# Altium schematic symbol library EEG_SYMBOLS.SchLib: 41 symbols (part 1 of 2)
Pins are listed as number, name and electrical type; pins without a type are passive.

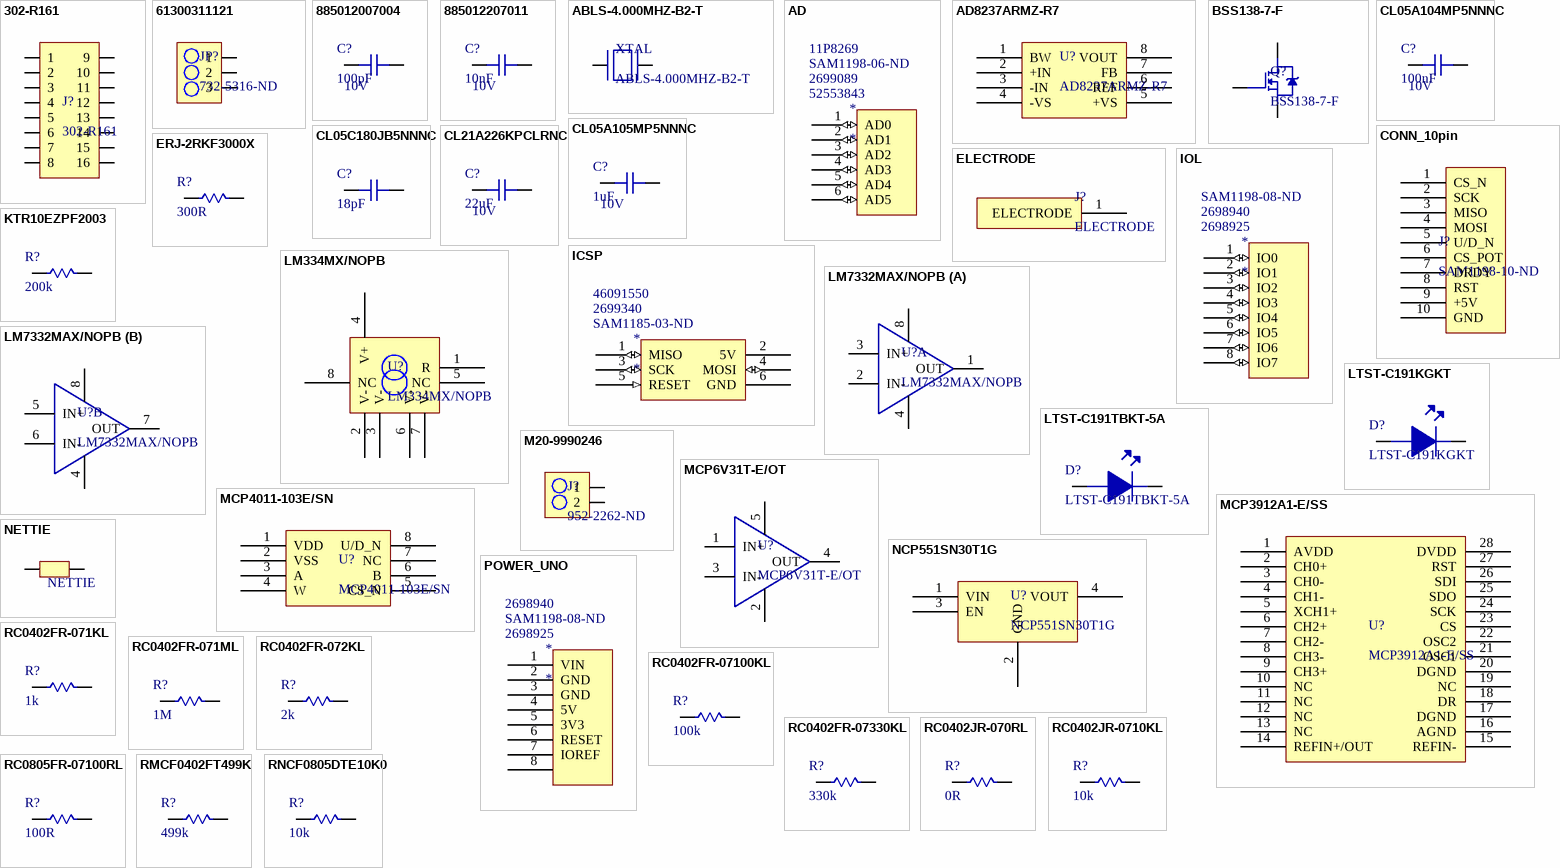
[diagram p0: symbols 302-R161 to RNCF0805DTE10K0]

## 302-R161
designator J?
16 Positions Header, Shrouded Connector 0.100" (2.54mm) Through Hole, Right Angle Gold; Manufacturer: On-Shore Technology; Number of Positions: 16; Connector Type: Male Pin; Pitch: 0.1inch; Supplier 1: Digi-Key; Manufacturer Part Number: 302-R161; Stock 1: 7509; Pricing 1: 1=0.44, 10=0.417, 180=0.3197, 540=0.278, 1080=0.2294, 5040=0.2016, 10080=0.1877 (USD); Mount: Through Hole; Colour: Black; Contact Plating: Gold; Number of Rows: 2; Packaging: Tray; Termination: Solder; Row Spacing: 0.1inch; ComponentLink1URL: http://www.on-shore.com/wp-content/uploads/2015/09/302-rxxx.pdf; ComponentLink1Description: http://www.on-shore.com/wp-content/uploads/2015/09/302-rxxx.pdf; Supplier Part Number 1: ED10535-ND
footprint CONN16POS
pins: 1, 2, 3, 4, 5, 6, 7, 8, 9, 10, 11, 12, 13, 14, 15, 16

## 61300311121
designator JP?, comment 732-5316-ND
CONN_HeaderPins3pos WURTH ELEKTRONIK Board-To-Board Connector, Vertical, WR-PHD Series, Through Hole, Header, 3 Contacts, 2.54 mm; Manufacturer: Wurth Electronics; Manufacturer Part Number: 61300311121; Number of Positions: 3; Gender: Male; Connector Type: Male Pin; Pitch: 0.1inch; Supplier 1: Digi-Key; Stock 1: 57026; Pricing 1: 1=0.13, 10=0.106, 25=0.088, 50=0.074, 100=0.067, 1000=0.061 (USD); Mount: Through Hole; Case/Package: 100; Contact Plating: Gold; Contact Material: Copper; Colour: Black; Number of Rows: 1; Packaging: Bulk; Termination: Solder; Number of Contacts: 3; Contact Mating Length: 0.236inch; REACH SVHC: Unknown; Lead Free: Lead Free; ComponentLink1URL: http://www.farnell.com/cad/1737268.pdf; ComponentLink1Description: http://www.farnell.com/cad/1737268.pdf; Supplier Part Number 1: 732-5316-ND
footprint 3PIN_HEADER
pins: 1, 2, 3

## 885012007004
designator C?, comment 100pF  Voltage Rating: 10V
CAP CER 100pF 10V C0G, NP0 0805 (2012 Metric) 0.079" L x 0.049" W (2.00mm x 1.25mm); Manufacturer: Wurth Electronics; Manufacturer Part Number: 885012007004; Tolerance: 5%; Supplier 1: Digi-Key; Stock 1: 4355; Pricing 1: 1=0.1, 10=0.046, 100=0.0415, 500=0.0367 (USD); Mount: Surface Mount; Case/Package: 0805; Case Code (Metric): 2012; Case Code (Imperial): 0805; Min Operating Temperature: -55°C; Max Operating Temperature: 125°C; Packaging: Tape and Reel; Capacitance: 100pF; Length: 0.079inch; Width: 0.049inch; Thickness: 0.028inch; Supplier Part Number 1: 732-7809-1-ND
footprint C0805 (Chip Capacitor, 2-Leads, Body 2.00x1.25mm, IPC Medium Density)
pins: 1, 2

## 885012207011
designator C?, comment 10nF  Voltage Rating: 10V
CAP CER 10nF 10V X7R 0805 (2012 Metric) 0.079" L x 0.049" W (2.00mm x 1.25mm); Manufacturer: Wurth Electronics; Manufacturer Part Number: 885012207011; Tolerance: 10%; Supplier 1: Digi-Key; Stock 1: 3315; Pricing 1: 1=0.1, 10=0.035, 100=0.0312, 500=0.0276 (USD); Mount: Surface Mount; Case/Package: 0805; Case Code (Metric): 2012; Case Code (Imperial): 0805; Min Operating Temperature: -55°C; Max Operating Temperature: 125°C; Packaging: Tape and Reel; Capacitance: 10nF; Length: 0.079inch; Width: 0.049inch; Thickness: 0.035inch; Supplier Part Number 1: 732-8021-1-ND
footprint C0805 (Chip Capacitor, 2-Leads, Body 2.00x1.25mm, IPC Medium Density)
pins: 1, 2

## ABLS-4.000MHZ-B2-T
designator XTAL
4MHz ±20ppm Crystal 18pF 180 Ohm -20°C ~ 70°C  Surface Mount HC49/US; Manufacturer: Abracon; ESR (Equivalent Series Resistance): 180R; Frequency Stability: 50ppm; Supplier 1: Digi-Key; Manufacturer Part Number: ABLS-4.000MHZ-B2-T; Stock 1: 74308; Pricing 1: 1=0.28, 10=0.234, 50=0.2104, 100=0.187, 500=0.1777 (USD); Mount: Surface Mount; Case/Package: SMD/SMT; Number of Pins: 2; Min Operating Temperature: -20°C; Max Operating Temperature: 70°C; Package Quantity: 1000; Frequency: 4MHz; Frequency Tolerance: 20ppm; Load Capacitance: 18pF; Packaging: Tape and Reel; Tolerance: 20ppm; Termination: SMD/SMT; Series Resistance: 180R; Length: 11.4mm; Height: 0.165inch; Width: 0.185inch; Depth: 4.7mm; Radiation Hardening: No; REACH SVHC: Yes; Lead Free: Lead Free; ComponentLink1URL: https://abracon.com/Support/PackageDrawing/Resonators/ABLS-2D.pdf; ComponentLink1Description: https://abracon.com/Support/PackageDrawing/Resonators/ABLS-2D.pdf; ComponentLink2URL: http://www.abracon.com/Resonators/abls.pdf; ComponentLink2Description: http://www.abracon.com/Resonators/abls.pdf; ComponentLink3URL: https://www.verical.com/server-webapp/html/getDatasheet?partID=722412; ComponentLink3Description: https://www.verical.com/server-webapp/html/getDatasheet?partID=722412; ComponentLink4URL: http://www.mouser.com/ds/2/3/abls-44621.pdf; ComponentLink4Description: http://www.mouser.com/ds/2/3/abls-44621.pdf; Supplier Part Number 1: 535-9085-1-ND
footprint XTAL
pins: 1, 2

## AD
designator *  Supplier Part Number 1: 52553843  Supplier Part Number 2: 2699089  Supplier Part Number 3: SAM1198-06-ND  Supplier Part Number 4: 11P8269
Supplier 1: Arrow; Supplier 2: Arrow; Supplier 3: Digi-Key; Supplier 4: Newark
footprint Header 6x1 8.5mm (Stackable 6 pin header)
pins: 1 AD0 (io), 2 AD1 (io), 3 AD2 (io), 4 AD3 (io), 5 AD4 (io), 6 AD5 (io)

## AD8237ARMZ-R7
designator U?
IC OPAMP INSTR 200KHZ RRO 8MSOP; Manufacturer: Analog Devices; Number of Channels: 1; Common Mode Rejection Ratio: 106dB; Max Supply Voltage: 5.5V; Min Supply Voltage: 1.8V; Slew Rate: 0.15V/µs; Nominal Supply Current: 115uA; Bandwidth: 20kHz; Input Bias Current: 250pA; Input Offset Voltage (Vos): 75uV; Output Current per Channel: 4mA; Voltage Gain: 60dB; Supplier 1: Digi-Key; Manufacturer Part Number: AD8237ARMZ-R7; Stock 1: 16545; Pricing 1: 1=2.76, 10=2.476, 100=2.0286, 500=1.7269 (USD); Mount: Surface Mount; Case/Package: MSOP; Number of Pins: 8; Contact Plating: Matte,Tin; Min Operating Temperature: -40°C; Max Operating Temperature: 125°C; Packaging: Tape and Reel; Package Quantity: 1; -3db Bandwidth: 200kHz; Number of Circuits: 1; Operating Supply Current: 115uA; Number of Elements: 1; Lead Free: Contains Lead; ComponentLink1URL: http://www.analog.com/media/en/technical-documentation/data-sheets/AD8237.pdf; ComponentLink1Description: http://www.analog.com/media/en/technical-documentation/data-sheets/AD8237.pdf; ComponentLink2URL: http://www.analog.com/static/imported-files/data_sheets/AD8237.pdf; ComponentLink2Description: http://www.analog.com/static/imported-files/data_sheets/AD8237.pdf; Supplier Part Number 1: AD8237ARMZ-R7CT-ND
footprint MSOP-8 (TSOP, 8-Leads, Body 3.00x3.00mm, Pitch 0.65mm, IPC Medium Density)
pins: 1 BW, 2 +IN, 3 -IN, 4 -VS, 5 +VS, 6 REF, 7 FB, 8 VOUT

## BSS138-7-F
designator Q?
MOSFET N-CH 50V 200MA SOT23-3; Manufacturer: Diodes; Nominal Vgs: 1.2V; Rds On Max: 3.5R; Input Capacitance: 50pF; Number of Elements: 1; Max Power Dissipation: 300mW; Turn-Off Delay Time: 20ns; Element Configuration: Single; Gate to Source Voltage (Vgs): 20V; Fall Time: 25ns; Rise Time: 10ns; Current: 2A; Supplier 1: Digi-Key; Manufacturer Part Number: BSS138-7-F; Stock 1: 6200; Pricing 1: 1=0.23, 10=0.212, 100=0.119, 500=0.0637, 1000=0.0433 (USD); Mount: Surface Mount; Case/Package: SOT-23; Number of Pins: 3; Weight: 0.000282oz; Contact Plating: Matte,Tin; Min Operating Temperature: -55°C; Max Operating Temperature: 150°C; Packaging: Tape and Reel; Package Quantity: 3000; Drain to Source Voltage (Vdss): 50V; Continuous Drain Current (ID): 200mA; Drain to Source Breakdown Voltage: 50V; Drain to Source Resistance: 3.5R; Power Dissipation: 300mW; Turn-On Delay Time: 20ns; Threshold Voltage: 1.2V; Number of Channels: 1; Voltage Rating (DC): 50V; Current Rating: 200mA; Voltage: 50V; On-State Resistance: 3.5R; Length: 2.9mm; Height: 1mm; Width: 1.3mm; REACH SVHC: No SVHC; Lead Free: Lead Free; ComponentLink1URL: http://www.diodes.com/datasheets/BSS138.pdf; ComponentLink1Description: http://www.diodes.com/datasheets/BSS138.pdf; ComponentLink2URL: http://www.farnell.com/datasheets/1915619.pdf; ComponentLink2Description: http://www.farnell.com/datasheets/1915619.pdf; ComponentLink3URL: https://www.diodes.com/assets/Datasheets/ds30144.pdf; ComponentLink3Description: https://www.diodes.com/assets/Datasheets/ds30144.pdf; ComponentLink4URL: http://www.diodes.com/_files/datasheets/ds30144.pdf; ComponentLink4Description: http://www.diodes.com/_files/datasheets/ds30144.pdf; Supplier Part Number 1: BSS138-FDICT-ND
footprint SOT23-3 (SOT23, 3-Leads, Body 2.90x2.35mm, Pitch 0.90mm, IPC Medium Density)
pins: 1, 2, 3

## CL05A104MP5NNNC
designator C?, comment 100nF  Voltage Rating: 10V
CAP CER 0.1uF 10V X5R 20% SMD 0402 85C Paper T/R; Manufacturer: Samsung; Manufacturer Part Number: CL05A104MP5NNNC; Description: Cap Ceramic 0.1uF 10V X5R 20% SMD 0402 85C Paper T/R; Supplier 1: Digi-Key; Stock 1: 100000; Pricing 1: 1=0.1, 10=0.024, 100=0.0106, 500=0.0076, 1000=0.006, 2500=0.0054, 5000=0.005 (USD); Mount: Surface Mount; Case/Package: 0402; Case Code (Metric): 1005; Case Code (Imperial): 0402; Min Operating Temperature: -55°C; Max Operating Temperature: 85°C; Packaging: Tape and Reel; Capacitance: 100nF; Tolerance: 20%; Dielectric: X5R; Voltage Rating (DC): 10V; Length: 1mm; Height: 0.5mm; Width: 0.02inch; Thickness: 0.022inch; Depth: 0.5mm; Radiation Hardening: No; Lead Free: Lead Free; ComponentLink1URL: https://media.digikey.com/pdf/Data%20Sheets/Samsung%20PDFs/CL_Series_MLCC_ds.pdf; ComponentLink1Description: https://media.digikey.com/pdf/Data%20Sheets/Samsung%20PDFs/CL_Series_MLCC_ds.pdf; Supplier Part Number 1: 1276-1443-1-ND
footprint C0402 (Chip Capacitor, 2-Leads, Body 1.00x0.50mm, IPC Medium Density)
pins: 1, 2

## CL05A105MP5NNNC
designator C?, comment 1uF  Voltage Rating: 10V
CAP CER 1uF 10V X5R 20% SMD 0402 85C Paper T/R; Manufacturer: Samsung; Manufacturer Part Number: CL05A105MP5NNNC; Description: Cap Ceramic 1uF 10V X5R 20% SMD 0402 85C Paper T/R; Supplier 1: Digi-Key; Stock 1: 51298; Pricing 1: 1=0.1, 10=0.031, 100=0.014, 500=0.01, 1000=0.0079, 2500=0.0072, 5000=0.0066 (USD); Mount: Surface Mount; Case/Package: 0402; Case Code (Metric): 1005; Case Code (Imperial): 0402; Min Operating Temperature: -55°C; Max Operating Temperature: 85°C; Package Quantity: 1; Packaging: Tape and Reel; Capacitance: 1uF; Tolerance: 20%; Dielectric: X5R; Voltage Rating (DC): 10V; Length: 1mm; Height: 0.5mm; Width: 0.02inch; Thickness: 0.022inch; Depth: 0.5mm; Radiation Hardening: No; Lead Free: Lead Free; ComponentLink1URL: https://media.digikey.com/pdf/Data%20Sheets/Samsung%20PDFs/CL_Series_MLCC_ds.pdf; ComponentLink1Description: https://media.digikey.com/pdf/Data%20Sheets/Samsung%20PDFs/CL_Series_MLCC_ds.pdf; Supplier Part Number 1: 1276-1448-1-ND
footprint C0402 (Chip Capacitor, 2-Leads, Body 1.00x0.50mm, IPC Medium Density)
pins: 1, 2

## CL05C180JB5NNNC
designator C?, comment 18pF
CAP CER 18pF 50V C0G 5% SMD 0402 125C Paper T/R; Manufacturer: Samsung; Manufacturer Part Number: CL05C180JB5NNNC; Description: Cap Ceramic 18pF 50V C0G 5% SMD 0402 125C Paper T/R; Material: Ceramic; Temperature Coefficient: 300ppm/°C; Supplier 1: Digi-Key; Stock 1: 42154; Pricing 1: 1=0.1, 10=0.033, 100=0.0148, 500=0.0105, 1000=0.0083, 2500=0.0075, 5000=0.0069 (USD); Mount: Surface Mount; Case/Package: 0402; Case Code (Metric): 1005; Case Code (Imperial): 0402; Contact Plating: Tin; Min Operating Temperature: -55°C; Max Operating Temperature: 125°C; Package Quantity: 1; Packaging: Tape and Reel; Capacitance: 18pF; Tolerance: 5%; Voltage Rating: 50V; Dielectric: C0G; Voltage: 50V; Length: 1mm; Height: 0.5mm; Width: 0.02inch; Thickness: 0.022inch; Depth: 0.5mm; Radiation Hardening: No; ComponentLink1URL: https://www.verical.com/server-webapp/html/getDatasheet?partID=482699; ComponentLink1Description: https://www.verical.com/server-webapp/html/getDatasheet?partID=482699; ComponentLink2URL: https://www.distrelec.biz/Web/Downloads/_e/ng/MLCC_CatalogDownload2013_ENG.pdf?mime=application%2Fpdf; ComponentLink2Description: https://www.distrelec.biz/Web/Downloads/_e/ng/MLCC_CatalogDownload2013_ENG.pdf?mime=application%2Fpdf; ComponentLink3URL: https://produktinfo.conrad.com/datenblaetter/450000-474999/458675-da-01-en-VS_KONDENSATOR_0402.pdf; ComponentLink3Description: https://produktinfo.conrad.com/datenblaetter/450000-474999/458675-da-01-en-VS_KONDENSATOR_0402.pdf; Supplier Part Number 1: 1276-1140-1-ND
footprint C0402 (Chip Capacitor, 2-Leads, Body 1.00x0.50mm, IPC Medium Density)
pins: 1, 2

## CL21A226KPCLRNC
designator C?, comment 22uF  Voltage Rating: 10V
CAP CER 22uF 10V X5R 10% SMD 0805 85C Cardboard T/R; Manufacturer: Samsung; Manufacturer Part Number: CL21A226KPCLRNC; Description: Cap Ceramic 22uF 10V X5R 10% SMD 0805 85C Cardboard T/R; Supplier 1: Digi-Key; Stock 1: 40000; Pricing 1: 1=0.38, 10=0.26, 100=0.1471, 500=0.1039, 1000=0.0909 (USD); Mount: Surface Mount; Case/Package: 0805; Case Code (Metric): 2012; Case Code (Imperial): 0805; Min Operating Temperature: -55°C; Max Operating Temperature: 85°C; Packaging: Tape and Reel; Tolerance: 10%; Capacitance: 22uF; Dielectric: X5R; Length: 2mm; Width: 0.049inch; Thickness: 0.037inch; Depth: 1.25mm; Radiation Hardening: No; Lead Free: Lead Free; ComponentLink1URL: https://www.verical.com/server-webapp/html/getDatasheet?partID=781772; ComponentLink1Description: https://www.verical.com/server-webapp/html/getDatasheet?partID=781772; Supplier Part Number 1: 1276-6786-1-ND
footprint C0805 (Chip Capacitor, 2-Leads, Body 2.00x1.25mm, IPC Medium Density)
pins: 1, 2

## CONN_10pin
designator J?, comment SAM1198-10-ND
10 pin header connector; Supplier 1: Arrow; Supplier 2: Arrow; Supplier 3: Digi-Key; Supplier Part Number 1: 2698789; Supplier Part Number 2: 2698803S4475693N1004; Supplier Part Number 3: SAM1198-10-ND
footprint Header 10x1 8.5mm (Stackable 10 pin header)
pins: 1 CS_N, 2 SCK, 3 MISO, 4 MOSI, 5 U/D_N, 6 CS_POT, 7 DRDY, 8 RST, 9 +5V, 10 GND

## ELECTRODE
designator J?
Silver Electrode Pins
footprint ELECTRODE
pins: 1 ELECTRODE

## ERJ-2RKF3000X
designator R?, comment 300R
RES SMD 300R 0402 300 Ohm 1% 1/10W ±100ppm/C Molded SMD Punched Carrier T/R; Manufacturer: Panasonic; Manufacturer Part Number: ERJ-2RKF3000X; Description: Res Thick Film 0402 300 Ohm 1% 1/10W ±100ppm/C Molded SMD Punched Carrier T/R; Power Rating: 100mW; Voltage Rating: 50V; Temperature Coefficient: 100ppm/°C; Supplier 1: Digi-Key; Stock 1: 2431619; Pricing 1: 1=0.1, 10=0.054, 100=0.0221, 1000=0.0099, 2500=0.0086, 5000=0.0071 (USD); Mount: Surface Mount; Case/Package: 0402; Case Code (Metric): 1005; Case Code (Imperial): 0402; Contact Plating: Tin; Min Operating Temperature: -55°C; Max Operating Temperature: 155°C; Resistance: 300R; Tolerance: 1%; Packaging: Tape and Reel; Package Quantity: 10000; Composition: Thick Film; Number of Terminations: 2; Termination: SMD/SMT; Military Standard: Not; Max Power Dissipation: 100mW; Voltage Rating (DC): 50V; Length: 1mm; Height: 0.35mm; Width: 0.02inch; Depth: 0.5mm; REACH SVHC: No SVHC; Lead Free: Lead Free; ComponentLink1URL: https://www.alliedelec.com/m/d/623f45ff1957d936ff56d46fd1c28cac.pdf; ComponentLink1Description: https://www.alliedelec.com/m/d/623f45ff1957d936ff56d46fd1c28cac.pdf; ComponentLink2URL: http://industrial.panasonic.com/www-data/pdf/AOA0000/AOA0000CE2.pdf; ComponentLink2Description: http://industrial.panasonic.com/www-data/pdf/AOA0000/AOA0000CE2.pdf; ComponentLink3URL: http://www.farnell.com/datasheets/1911175.pdf; ComponentLink3Description: http://www.farnell.com/datasheets/1911175.pdf; ComponentLink4URL: http://components.arrow.com/part/dataview/41791037S8289418N1386; ComponentLink4Description: http://components.arrow.com/part/dataview/41791037S8289418N1386; ComponentLink5URL: http://www.mouser.com/ds/2/315/AOA0000CE2-37512.pdf; ComponentLink5Description: http://www.mouser.com/ds/2/315/AOA0000CE2-37512.pdf; ComponentLink6URL: http://www.farnell.com/datasheets/1694929.pdf; ComponentLink6Description: http://www.farnell.com/datasheets/1694929.pdf; Supplier Part Number 1: P300LCT-ND
footprint R0402 (Chip Resistor, 2-Leads, Body 1.00x0.50mm, IPC Medium Density)
pins: 1, 2

## ICSP
designator *  Supplier Part Number 1: SAM1185-03-ND  Supplier Part Number 2: 2699340  Supplier Part Number 3: 46091550
Supplier 1: Digi-Key; Supplier 2: Arrow; Supplier 3: Arrow
footprint ICSP
pins: 1 MISO (io), 2 5V (power), 3 SCK (io), 4 MOSI (io), 5 RESET (in), 6 GND (power)

## IOL
designator *  Supplier Part Number 1: 2698925  Supplier Part Number 2: 2698940  Supplier Part Number 3: SAM1198-08-ND
Supplier 1: Arrow; Supplier 2: Arrow; Supplier 3: Digi-Key
footprint Header 8x1 8.5mm (Stackable 8 pin header)
footprint Header 8x1 8.5mm (Stackable 8 pin header)
pins: 1 IO0 (io), 2 IO1 (io), 3 IO2 (io), 4 IO3 (io), 5 IO4 (io), 6 IO5 (io), 7 IO6 (io), 8 IO7 (io)

## KTR10EZPF2003
designator R?, comment 200k
RES SMD 200K 0805 1/8W 1% 0805 SMD; Manufacturer: Rohm; Manufacturer Part Number: KTR10EZPF2003; Resistance: 200000R; Supplier 1: Digi-Key; Stock 1: 61032; Pricing 1: 1=0.19, 10=0.16, 100=0.0624, 1000=0.0261, 2500=0.024 (USD); Case/Package: 0805; Supplier Part Number 1: RHM200KAHCT-ND
footprint R0805 (Chip Resistor, 2-Leads, Body 2.00x1.25mm, IPC Medium Density)
pins: 1, 2

## LM334MX/NOPB
designator U?
IC CURRENT SOURCE 3% 8SOIC; Manufacturer: TI National Semiconductor; Forward Voltage: 1V; Max Input Voltage: 40V; Output Voltage: 20V; Min Supply Voltage: 800mV; Max Supply Current: 10mA; Accuracy: 6%; Forward Current: 5mA; Max Power Dissipation: 400mW; Number of Outputs: 1; Quiescent Current: 1uA; Reference Type: Adjustable; Output Type: Analog; Supplier 1: Digi-Key; Manufacturer Part Number: LM334MX/NOPB; Stock 1: 58254; Pricing 1: 1=0.9, 10=0.802, 100=0.6254, 500=0.5166, 1000=0.4079 (USD); Mount: Surface Mount; Case/Package: SOIC; Number of Pins: 8; Min Operating Temperature: -40°C; Max Operating Temperature: 85°C; Packaging: Tape and Reel; Min Input Voltage: 1V; Max Supply Voltage: 40V; Package Quantity: 2500; Output Current: 10mA; Radiation Hardening: No; REACH SVHC: No SVHC; Lead Free: Lead Free; ComponentLink1URL: https://www.verical.com/server-webapp/html/getDatasheet?partID=629166; ComponentLink1Description: https://www.verical.com/server-webapp/html/getDatasheet?partID=629166; ComponentLink2URL: http://www.ti.com/lit/ds/symlink/lm234.pdf; ComponentLink2Description: http://www.ti.com/lit/ds/symlink/lm234.pdf; ComponentLink3URL: http://www.ti.com/general/docs/lit/getliterature.tsp?genericPartNumber=LM334&&fileType=pdf; ComponentLink3Description: http://www.ti.com/general/docs/lit/getliterature.tsp?genericPartNumber=LM334&&fileType=pdf; ComponentLink4URL: http://www.farnell.com/datasheets/1883087.pdf; ComponentLink4Description: http://www.farnell.com/datasheets/1883087.pdf; Supplier Part Number 1: LM334MX/NOPBCT-ND
footprint 8-SOIC (SOIC, 8-Leads, Body 4.90x3.90mm, Pitch 1.27mm, IPC Medium Density)
pins: 1 R, 2 V-, 3 V-, 4 V+, 5 NC, 6 V-, 7 V-, 8 NC

## LM7332MAX/NOPB
designator U?
IC OP AMP R-R I/O DUAL 30V 8SOIC; Manufacturer: TI National Semiconductor; Slew Rate: 15.2V/µs; Unity Gain Bandwidth Product: 19.3MHz; Common Mode Rejection Ratio: 62dB; Max Supply Voltage: 32V; Min Supply Voltage: 2.5V; Min Dual Supply Voltage: 1.25V; Max Dual Supply Voltage: 16V; Number of Channels: 2; Output Current: 70mA; Nominal Supply Current: 2mA; Voltage Gain: 77dB; Input Offset Voltage (Vos): 2mV; Input Bias Current: 1uA; Gain Bandwidth Product: 21MHz; Power Supply Rejection Ratio (PSRR): 78dB; Supplier 1: Digi-Key; Manufacturer Part Number: LM7332MAX/NOPB; Stock 1: 7321; Pricing 1: 1=2.67, 10=2.402, 100=1.9306, 500=1.5862, 1000=1.3143 (USD); Mount: Surface Mount; Case/Package: SOIC; Number of Pins: 8; Contact Plating: Tin; Min Operating Temperature: -40°C; Max Operating Temperature: 125°C; Packaging: Tape and Reel; Package Quantity: 2500; Number of Circuits: 2; Operating Supply Current: 2mA; Output Current per Channel: 70mA; Number of Elements: 2; Operating Supply Voltage: 16V; Radiation Hardening: No; Lead Free: Lead Free; ComponentLink1URL: http://www.ti.com/lit/ds/symlink/lm7332.pdf; ComponentLink1Description: http://www.ti.com/lit/ds/symlink/lm7332.pdf; Supplier Part Number 1: 296-35310-1-ND
footprint 8-SOIC (SOIC, 8-Leads, Body 4.90x3.90mm, Pitch 1.27mm, IPC Medium Density)
part A pins: 1 OUT, 2 IN-, 3 IN+, 4 V-, 8 V+
part B pins: 4 V-, 5 IN+, 6 IN-, 7 OUT, 8 V+

## LTST-C191KGKT
designator D?
LED GREEN CLEAR 0603 SMD; Manufacturer: Vishay Lite-On; Lens Colour: Clear,Colorless; Power Rating: 75mW; Luminous Intensity: 35mcd; Viewing Angle: 130°; Lens Style: Clear,Diffused,Colorless,Rectangular; Forward Current: 30mA; Forward Voltage: 2V; Dominant Wavelength: 571nm; Test Current: 20mA; Number of Elements: 1; Wavelength: 574nm; Supplier 1: Digi-Key; Manufacturer Part Number: LTST-C191KGKT; Stock 1: 1301664; Pricing 1: 1=0.29, 10=0.211, 25=0.1556, 100=0.1111, 250=0.0756, 500=0.0667, 1000=0.0522, 2500=0.0511 (USD); Mount: Surface Mount; Case/Package: 0603; Number of Pins: 2; Colour: Green; Case Code (Metric): 1608; Case Code (Imperial): 0603; Min Operating Temperature: -55°C; Max Operating Temperature: 85°C; Packaging: Tape and Reel; Package Quantity: 1; Illumination Colour: Green; Lens Transparency: Clear; Power Dissipation: 75mW; Number of LEDs: 1; Length: 1.6mm; Height: 0.55mm; Width: 0.8mm; Depth: 0.8mm; Radiation Hardening: No; Lead Free: Lead Free; ComponentLink1URL: https://datasheet.ciiva.com/12400/100-ltst-c191kgkt-53586-12400818.pdf; ComponentLink1Description: https://datasheet.ciiva.com/12400/100-ltst-c191kgkt-53586-12400818.pdf; ComponentLink2URL: https://datasheet.ciiva.com/2109/s-110-ltst-c191kgkt-2109973.pdf; ComponentLink2Description: https://datasheet.ciiva.com/2109/s-110-ltst-c191kgkt-2109973.pdf; ComponentLink3URL: https://datasheet.ciiva.com/2109/s-110-ltst-c191kgkt-2109974.pdf; ComponentLink3Description: https://datasheet.ciiva.com/2109/s-110-ltst-c191kgkt-2109974.pdf; ComponentLink4URL: https://datasheet.ciiva.com/2109/s-110-ltst-c191kgkt-2109975.pdf; ComponentLink4Description: https://datasheet.ciiva.com/2109/s-110-ltst-c191kgkt-2109975.pdf; ComponentLink5URL: https://datasheet.ciiva.com/15223/getdatasheetpartid-103913-15223276.pdf; ComponentLink5Description: https://datasheet.ciiva.com/15223/getdatasheetpartid-103913-15223276.pdf; ComponentLink6URL: https://datasheet.ciiva.com/11773/0900766b80dc02b1-11773629.pdf; ComponentLink6Description: https://datasheet.ciiva.com/11773/0900766b80dc02b1-11773629.pdf; ComponentLink7URL: https://datasheet.ciiva.com/16215/ltst-c191kgkt-16215151.pdf; ComponentLink7Description: https://datasheet.ciiva.com/16215/ltst-c191kgkt-16215151.pdf; Supplier Part Number 1: 160-1446-6-ND
footprint LED_0603
pins: 1, 2

## LTST-C191TBKT-5A
designator D?
LED BLUE CLEAR 0603 SMD; Manufacturer: Vishay Lite-On; Lens Colour: Colorless; Lens Style: Diffused,Colorless,Rectangular; Viewing Angle: 130°; Forward Current: 20mA; Forward Voltage: 2.8V; Luminous Intensity: 15mcd; Test Current: 5mA; Dominant Wavelength: 473nm; Number of LEDs: 1; Voltage: 29V; Supplier 1: Digi-Key; Manufacturer Part Number: LTST-C191TBKT-5A; Stock 1: 2918; Pricing 1: 1=0.52, 10=0.376, 25=0.2884, 100=0.1881, 250=0.138, 500=0.117, 1000=0.0961, 2500=0.0836 (USD); Mount: Surface Mount; Case/Package: 0603; Colour: Blue; Case Code (Metric): 1608; Case Code (Imperial): 0603; Min Operating Temperature: -20°C; Max Operating Temperature: 80°C; Packaging: Tape and Reel; Package Quantity: 5000; Illumination Colour: Blue; Lens Transparency: Clear; Length: 1.6mm; Height: 0.55mm; Width: 0.8mm; Radiation Hardening: No; ComponentLink1URL: http://components.arrow.com/part/dataview/52218576S9813001N1331; ComponentLink1Description: http://components.arrow.com/part/dataview/52218576S9813001N1331; ComponentLink2URL: http://optoelectronics.liteon.com/zh-cn/api/DwonloadFileHandler.ashx?txtSpecNo=DS22-2003-020&txtPartNo=LTST-C191TBKT-5A; ComponentLink2Description: http://optoelectronics.liteon.com/zh-cn/api/DwonloadFileHandler.ashx?txtSpecNo=DS22-2003-020&txtPartNo=LTST-C191TBKT-5A; Supplier Part Number 1: 160-2212-6-ND
footprint LED_0603
pins: 1, 2

## M20-9990246
designator J?, comment 952-2262-ND
CONN_HeaderPins2pos Headers & Wire Housings 02 SIL VERTICAL PIN HEADER TIN; Manufacturer: Harwin; Manufacturer Part Number: M20-9990246; Contact Resistance: 30mR; Max Current Rating: 3A; Number of Positions: 2; Gender: Male; Connector Type: Male Pin; Insulation Resistance: 10GR; Voltage Rating (AC): 750V; Pitch: 2.54mm; Supplier 1: Digi-Key; Stock 1: 53577; Pricing 1: 1=0.11, 10=0.099, 100=0.0609, 500=0.0504, 1000=0.0441, 5000=0.0378, 10000=0.0368 (USD); Case/Package: SIL; Colour: Black; Housing Colour: Black; Housing Material: Nylon; Contact Plating: Tin; Contact Material: Bronze,Brass; Min Operating Temperature: -40°C; Max Operating Temperature: 105°C; Package Quantity: 1000; Packaging: Bulk; Termination: Solder; Number of Rows: 1; Number of Contacts: 2; Orientation: Straight; Current Rating: 3A; Length: 5.08mm; Depth: 2.54mm; Contact Mating Length: 0.24inch; Radiation Hardening: No; REACH SVHC: No SVHC; ComponentLink1URL: https://datasheet.ciiva.com/8046/315376-8046930.pdf; ComponentLink1Description: https://datasheet.ciiva.com/8046/315376-8046930.pdf; ComponentLink2URL: https://datasheet.ciiva.com/6833/m20-999-6833368.pdf; ComponentLink2Description: https://datasheet.ciiva.com/6833/m20-999-6833368.pdf; ComponentLink3URL: https://datasheet.ciiva.com/11745/0900766b81034e61-11745755.pdf; ComponentLink3Description: https://datasheet.ciiva.com/11745/0900766b81034e61-11745755.pdf; ComponentLink4URL: https://datasheet.ciiva.com/22660/1830818-22660571.pdf; ComponentLink4Description: https://datasheet.ciiva.com/22660/1830818-22660571.pdf; ComponentLink5URL: https://datasheet.ciiva.com/26852/getdatasheetpartid-384170-26852203.pdf; ComponentLink5Description: https://datasheet.ciiva.com/26852/getdatasheetpartid-384170-26852203.pdf; Supplier Part Number 1: 952-2262-ND
footprint 2PIN_HEADER
pins: 1, 2

## MCP6V31T-E/OT
designator U?
IC OPAMP ZRO-DRFT 300KHZ SOT23-5; Manufacturer: Microchip; Slew Rate: 0.13V/µs; Voltage Gain: 135dB; Number of Channels: 1; Max Supply Voltage: 5.5V; Common Mode Rejection Ratio: 120dB; Min Supply Voltage: 1.8V; Output Current: 21mA; Nominal Supply Current: 23uA; Input Offset Voltage (Vos): 8uV; Input Bias Current: 5pA; Supplier 1: Digi-Key; Manufacturer Part Number: MCP6V31T-E/OT; Stock 1: 12497; Pricing 1: 1=1.11, 25=0.9272, 100=0.8446 (USD); Case/Package: SOT-23; Number of Pins: 5; Min Operating Temperature: -40°C; Max Operating Temperature: 125°C; Bandwidth: 300kHz; Packaging: Tape and Reel; Unity Gain Bandwidth Product: 300kHz; Package Quantity: 3000; Gain Bandwidth Product: 300kHz; Operating Supply Current: 23uA; Number of Circuits: 1; Output Current per Channel: 21mA; Number of Amplifiers: 1; Number of Elements: 1; Power Supply Rejection Ratio (PSRR): 120dB; Length: 3.1mm; Height: 1.3mm; Width: 1.8mm; Radiation Hardening: No; REACH SVHC: No SVHC; Lead Free: Lead Free; ComponentLink1URL: http://ww1.microchip.com/downloads/en/DeviceDoc/25127A.pdf; ComponentLink1Description: http://ww1.microchip.com/downloads/en/DeviceDoc/25127A.pdf; ComponentLink2URL: https://www.distrelec.biz/Web/Downloads/_t/ds/MCP6V31_1U_eng_tds.pdf?mime=application%2Fpdf; ComponentLink2Description: https://www.distrelec.biz/Web/Downloads/_t/ds/MCP6V31_1U_eng_tds.pdf?mime=application%2Fpdf; ComponentLink3URL: https://www.verical.com/server-webapp/html/getDatasheet?partID=762349; ComponentLink3Description: https://www.verical.com/server-webapp/html/getDatasheet?partID=762349; ComponentLink4URL: http://ww1.microchip.com/downloads/jp/DeviceDoc/jp557758.pdf; ComponentLink4Description: http://ww1.microchip.com/downloads/jp/DeviceDoc/jp557758.pdf; ComponentLink5URL: http://www.microchip.com/mymicrochip/filehandler.aspx?ddocname=en557758; ComponentLink5Description: http://www.microchip.com/mymicrochip/filehandler.aspx?ddocname=en557758; ComponentLink6URL: http://www.farnell.com/datasheets/1599560.pdf; ComponentLink6Description: http://www.farnell.com/datasheets/1599560.pdf; Supplier Part Number 1: MCP6V31T-E/OTCT-ND
footprint SOT23-5 (SOT23, 5-Leads, Body 2.90x2.70mm, Pitch 0.95mm, IPC Medium Density)
pins: 1 IN+, 2 V-, 3 IN-, 4 OUT, 5 V+

## MCP3912A1-E/SS
designator U?
IC Analog Front End - AFE 4 Chnl Energy Meter Front End 3V SPI/2; Manufacturer: Microchip; Interface: Serial,SPI; Number of Channels: 4; Resolution: 24b; Sampling Rate: 125KS/s; Max Supply Voltage: 3.6V; Min Supply Voltage: 2.7V; Supplier 1: Digi-Key; Manufacturer Part Number: MCP3912A1-E/SS; Stock 1: 156; Pricing 1: 1=3.33, 25=2.7708, 100=2.5235 (USD); Mount: Surface Mount; Case/Package: SSOP; Number of Pins: 28; Min Operating Temperature: -40°C; Max Operating Temperature: 125°C; Packaging: Rail/Tube; Package Quantity: 47; Number of A/D Converters: 4; Length: 10.5mm; Height: 1.85mm; Width: 5.6mm; REACH SVHC: No SVHC; Lead Free: Lead Free; Supplier Part Number 1: MCP3912A1-E/SS-ND
footprint SSOP-28 (SOP, 28-Leads, Body 10.20x5.30mm, Pitch 0.65mm, IPC Medium Density)
pins: 1 AVDD, 2 CH0+, 3 CH0-, 4 CH1-, 5 XCH1+, 6 CH2+, 7 CH2-, 8 CH3-, 9 CH3+, 10 NC, 11 NC, 12 NC, 13 NC, 14 REFIN+/OUT, 15 REFIN-, 16 AGND, 17 DGND, 18 DR, 19 NC, 20 DGND, 21 OSC1, 22 OSC2, 23 CS, 24 SCK, 25 SDO, 26 SDI, 27 RST, 28 DVDD

## MCP4011-103E/SN
designator U?
IC 10K Digital Potentiometer Single, 2 Wire, Serial,  20%, 1.8 V; Manufacturer: Microchip; Description: MICROCHIP         MCP4011-103E/SN             Volatile Digital Potentiometer, 10 kohm, Single, 2 Wire, Serial,  20%, 1.8 V; Min Supply Voltage: 1.8V; Max Supply Voltage: 5.5V; Resistance: 10kR; Operating Supply Voltage: 5V; Nominal Supply Current: 45uA; Interface: 2-Wire,Serial; Number of Circuits: 1; Number of Taps: 64; Memory Type: Volatile; Temperature Coefficient: 150ppm/°C; Supplier 1: Digi-Key; Manufacturer Part Number: MCP4011-103E/SN; Stock 1: 1448; Pricing 1: 1=0.53, 25=0.4428, 100=0.4017 (USD); Mount: Surface Mount; Case/Package: SOIC; Number of Pins: 8; Contact Plating: Matte,Tin; Min Operating Temperature: -40°C; Max Operating Temperature: 125°C; Tolerance: 20%; Packaging: Rail/Tube; Package Quantity: 100; Taper: Linear; Number of Positions: 64; Number of Elements: 1; Max Supply Current: 45uA; Length: 5mm; Height: 1.55mm; Width: 3.99mm; Radiation Hardening: No; REACH SVHC: No SVHC; Lead Free: Lead Free; ComponentLink1URL: http://ww1.microchip.com/downloads/en/DeviceDoc/21978c.pdf; ComponentLink1Description: http://ww1.microchip.com/downloads/en/DeviceDoc/21978c.pdf; ComponentLink2URL: https://www.verical.com/server-webapp/html/getDatasheet?partID=431510; ComponentLink2Description: https://www.verical.com/server-webapp/html/getDatasheet?partID=431510; ComponentLink3URL: http://www.microchip.com/mymicrochip/filehandler.aspx?ddocname=en025230; ComponentLink3Description: http://www.microchip.com/mymicrochip/filehandler.aspx?ddocname=en025230; ComponentLink4URL: http://www.microchip.com/mymicrochip/filehandler.aspx?ddocname=en023833; ComponentLink4Description: http://www.microchip.com/mymicrochip/filehandler.aspx?ddocname=en023833; ComponentLink5URL: https://www.distrelec.biz/Web/Downloads/_t/ds/mcp4011_eng_tds.pdf?mime=application%2Fpdf; ComponentLink5Description: https://www.distrelec.biz/Web/Downloads/_t/ds/mcp4011_eng_tds.pdf?mime=application%2Fpdf; ComponentLink6URL: http://www.farnell.com/datasheets/130143.pdf; ComponentLink6Description: http://www.farnell.com/datasheets/130143.pdf; Supplier Part Number 1: MCP4011-103E/SN-ND
footprint 8-SOIC (SOIC, 8-Leads, Body 4.90x3.90mm, Pitch 1.27mm, IPC Medium Density)
pins: 1 VDD, 2 VSS, 3 A, 4 W, 5 CS_N, 6 B, 7 NC, 8 U/D_N

## NCP551SN30T1G
designator U?
LDO 3.0V 150mA CMOS w/Enable; Manufacturer: ON Semiconductor; Description: LDO Voltage Regulators 3.0V 150mA CMOS w/Enable; Max Input Voltage: 12V; Min Input Voltage: 0uV; Dropout Voltage: 40mV; Output Voltage: 3V; Number of Outputs: 1; Input Bias Current: 4uA; Quiescent Current: 8uA; Accuracy: 2%; Polarity: Positive; Output Type: Fixed; Supplier 1: Digi-Key; Manufacturer Part Number: NCP551SN30T1G; Stock 1: 9920; Pricing 1: 1=0.54, 10=0.46, 100=0.3432, 500=0.2697, 1000=0.2084 (USD); Mount: Surface Mount; Case/Package: TSOP; Number of Pins: 5; Contact Plating: Matte,Tin; Min Operating Temperature: -40°C; Max Operating Temperature: 85°C; Max Output Current: 150mA; Package Quantity: 1; Packaging: Tape and Reel; Output Current: 150mA; Number of Regulators: 1; Min Output Voltage: 3V; Nominal Output Voltage: 3V; Output Voltage Accuracy: 2%; Length: 3mm; Height: 1mm; Width: 1.5mm; Radiation Hardening: No; REACH SVHC: No SVHC; Lead Free: Lead Free; Halogen Free: Halogen Free; ComponentLink1URL: http://www.onsemi.ru.com/pub/Collateral/NCP551-D.PDF; ComponentLink1Description: http://www.onsemi.ru.com/pub/Collateral/NCP551-D.PDF; ComponentLink2URL: http://www.onsemi.com/pub/Collateral/NCP551-D.PDF; ComponentLink2Description: http://www.onsemi.com/pub/Collateral/NCP551-D.PDF; Supplier Part Number 1: NCP551SN30T1GOSCT-ND
footprint TSOP-5 (SOT23, 5-Leads, Body 3.00x2.75mm, Pitch 0.95mm, IPC Medium Density)
pins: 1 VIN, 2 GND, 3 EN, 4 VOUT

## NETTIE
designator ?  (net tie, no BOM)
footprint NETTIE
pins: 1, 2

## POWER_UNO
designator *  Supplier Part Number 1: 2698925  Supplier Part Number 2: SAM1198-08-ND  Supplier Part Number 3: 2698940
Supplier 1: Arrow; Supplier 2: Digi-Key; Supplier 3: Arrow
footprint Header 8x1 8.5mm (Stackable 8 pin header)
pins: 1 VIN (power), 2 GND (power), 3 GND (power), 4 5V (power), 5 3V3 (power), 6 RESET, 7 IOREF (power), 8

## RC0402FR-071KL
designator R?, comment 1k
RES SMD 1K OHM 1% 1/16W 0402; Manufacturer: Yageo; Manufacturer Part Number: RC0402FR-071KL; Resistance: 1kR; Temperature Coefficient: 100ppm/°C; Power Rating: 62.5mW; Voltage Rating (DC): 50V; Supplier 1: Digi-Key; Stock 1: 121806164; Pricing 1: 1=0.1, 10=0.018, 100=0.0073, 1000=0.0033, 2500=0.0029, 5000=0.0024 (USD); Case/Package: 0402; Number of Pins: 2; Case Code (Imperial): 0402; Case Code (Metric): 1005; Min Operating Temperature: -55°C; Max Operating Temperature: 155°C; Tolerance: 1%; Packaging: Tape and Reel; Composition: Thick Film; Voltage Rating: 50V; Termination: SMD/SMT; Military Standard: Not; Length: 1mm; Height: 0.32mm; Width: 0.5mm; Depth: 0.5mm; REACH SVHC: Unknown; Lead Free: Lead Free; ComponentLink1URL: http://documents.rs-components.com/techlib://itc_doclist_GB.htm?stockno=6186122; ComponentLink1Description: http://documents.rs-components.com/techlib://itc_doclist_GB.htm?stockno=6186122; ComponentLink2URL: http://www.mouser.com/ds/2/447/PYu-RC0402_51_RoHS_L_6_r-8721.pdf; ComponentLink2Description: http://www.mouser.com/ds/2/447/PYu-RC0402_51_RoHS_L_6_r-8721.pdf; ComponentLink3URL: http://www.yageo.com/documents/recent/PYu-RC0402_51_RoHS_L_6_r.pdf; ComponentLink3Description: http://www.yageo.com/documents/recent/PYu-RC0402_51_RoHS_L_6_r.pdf; ComponentLink4URL: http://www.farnell.com/datasheets/1018594.pdf; ComponentLink4Description: http://www.farnell.com/datasheets/1018594.pdf; Supplier Part Number 1: 311-1.00KLRCT-ND
footprint R0402 (Chip Resistor, 2-Leads, Body 1.00x0.50mm, IPC Medium Density)
pins: 1, 2

## RC0402FR-071ML
designator R?, comment 1M
RES SMD 1M OHM 1% 1/16W 0402; Manufacturer: Yageo; Manufacturer Part Number: RC0402FR-071ML; Resistance: 1MR; Power Rating: 63mW; Voltage Rating: 50V; Temperature Coefficient: 100ppm/°C; Supplier 1: Digi-Key; Stock 1: 18919667; Pricing 1: 1=0.1, 10=0.018, 100=0.0073, 1000=0.0033, 2500=0.0029, 5000=0.0024 (USD); Case/Package: 0402; Case Code (Imperial): 0402; Case Code (Metric): 1005; Min Operating Temperature: -55°C; Max Operating Temperature: 155°C; Packaging: Tape and Reel; Tolerance: 1%; Termination: SMD/SMT; Composition: Thick Film; Military Standard: Not; Length: 1mm; Height: 0.32mm; Depth: 0.5mm; REACH SVHC: Unknown; Lead Free: Lead Free; ComponentLink1URL: http://www.farnell.com/datasheets/1018594.pdf; ComponentLink1Description: http://www.farnell.com/datasheets/1018594.pdf; ComponentLink2URL: http://www.yageo.com/documents/recent/PYu-RC0402_51_RoHS_L_6_r.pdf; ComponentLink2Description: http://www.yageo.com/documents/recent/PYu-RC0402_51_RoHS_L_6_r.pdf; Supplier Part Number 1: 311-1.00MLRCT-ND
footprint R0402 (Chip Resistor, 2-Leads, Body 1.00x0.50mm, IPC Medium Density)
pins: 1, 2

## RC0402FR-072KL
designator R?, comment 2k
RES SMD 2K OHM 1% 1/16W 0402; Manufacturer: Yageo; Manufacturer Part Number: RC0402FR-072KL; Resistance: 2kR; Power Rating: 63mW; Voltage Rating: 50V; Temperature Coefficient: 100ppm/°C; Supplier 1: Digi-Key; Stock 1: 11965319; Pricing 1: 1=0.1, 10=0.018, 100=0.0073, 1000=0.0033, 2500=0.0029, 5000=0.0024 (USD); Case/Package: 0402; Case Code (Metric): 1005; Case Code (Imperial): 0402; Min Operating Temperature: -55°C; Max Operating Temperature: 155°C; Tolerance: 1%; Package Quantity: 1; Packaging: Tape and Reel; Composition: Thick Film; Number of Terminations: 2; Termination: SMD/SMT; Military Standard: Not; Max Power Dissipation: 63mW; Voltage Rating (DC): 50V; Working Voltage: 50V; Features: Moisture Resistant; Length: 1mm; Height: 0.016inch; Width: 0.02inch; Depth: 0.5mm; REACH SVHC: Unknown; Lead Free: Lead Free; ComponentLink1URL: http://www.yageo.com/documents/recent/PYu-RC_Group_51_RoHS_L_9.pdf; ComponentLink1Description: http://www.yageo.com/documents/recent/PYu-RC_Group_51_RoHS_L_9.pdf; ComponentLink2URL: http://documents.rs-components.com/techlib://itc_doclist_GB.htm?stockno=6186510; ComponentLink2Description: http://documents.rs-components.com/techlib://itc_doclist_GB.htm?stockno=6186510; ComponentLink3URL: https://www.verical.com/server-webapp/html/getDatasheet?partID=358921; ComponentLink3Description: https://www.verical.com/server-webapp/html/getDatasheet?partID=358921; ComponentLink4URL: http://www.mouser.com/ds/2/447/PYu-RC0402_51_RoHS_L_6_r-8721.pdf; ComponentLink4Description: http://www.mouser.com/ds/2/447/PYu-RC0402_51_RoHS_L_6_r-8721.pdf; ComponentLink5URL: http://www.farnell.com/datasheets/1018594.pdf; ComponentLink5Description: http://www.farnell.com/datasheets/1018594.pdf; ComponentLink6URL: http://www.farnell.com/datasheets/2167052.pdf; ComponentLink6Description: http://www.farnell.com/datasheets/2167052.pdf; Supplier Part Number 1: 311-2KLRCT-ND
footprint R0402 (Chip Resistor, 2-Leads, Body 1.00x0.50mm, IPC Medium Density)
pins: 1, 2

## RC0402FR-07100KL
designator R?, comment 100k
RES SMD 100K OHM 1% 1/16W 0402; Manufacturer: Yageo; Manufacturer Part Number: RC0402FR-07100KL; Resistance: 100kR; Temperature Coefficient: 100ppm/°C; Power Rating: 63mW; Voltage Rating: 50V; Supplier 1: Digi-Key; Stock 1: 16311362; Pricing 1: 1=0.1, 10=0.018, 100=0.0073, 1000=0.0033, 2500=0.0029, 5000=0.0024 (USD); Case/Package: 0402; Case Code (Metric): 1005; Case Code (Imperial): 0402; Min Operating Temperature: -55°C; Max Operating Temperature: 155°C; Tolerance: 1%; Packaging: Tape and Reel; Composition: Thick Film; Termination: SMD/SMT; Military Standard: Not; Number of Terminations: 2; Working Voltage: 50V; Package Quantity: 1; Max Power Dissipation: 63mW; Features: Moisture Resistant; Length: 0.039inch; Height: 0.016inch; Width: 0.02inch; Depth: 0.5mm; REACH SVHC: No SVHC; Lead Free: Lead Free; ComponentLink1URL: http://www.yageo.com/documents/recent/PYu-RC_Group_51_RoHS_L_9.pdf; ComponentLink1Description: http://www.yageo.com/documents/recent/PYu-RC_Group_51_RoHS_L_9.pdf; ComponentLink2URL: http://www.farnell.com/datasheets/1018594.pdf; ComponentLink2Description: http://www.farnell.com/datasheets/1018594.pdf; ComponentLink3URL: http://www.yageo.com/documents/recent/PYu-RC_Group_51_RoHS_L_8.pdf; ComponentLink3Description: http://www.yageo.com/documents/recent/PYu-RC_Group_51_RoHS_L_8.pdf; ComponentLink4URL: http://documents.rs-components.com/techlib://itc_doclist_GB.htm?stockno=6185797; ComponentLink4Description: http://documents.rs-components.com/techlib://itc_doclist_GB.htm?stockno=6185797; Supplier Part Number 1: 311-100KLRCT-ND
footprint R0402 (Chip Resistor, 2-Leads, Body 1.00x0.50mm, IPC Medium Density)
pins: 1, 2

## RC0402FR-07330KL
designator R?, comment 330k
RES SMD 330K OHM 1% 1/16W 0402; Manufacturer: Yageo; Manufacturer Part Number: RC0402FR-07330KL; Resistance: 330kR; Power Rating: 63mW; Voltage Rating: 50V; Temperature Coefficient: 100ppm/°C; Supplier 1: Digi-Key; Stock 1: 1854774; Pricing 1: 1=0.1, 10=0.018, 100=0.0073, 1000=0.0033, 2500=0.0029, 5000=0.0024 (USD); Case/Package: 0402; Case Code (Metric): 1005; Case Code (Imperial): 0402; Min Operating Temperature: -55°C; Max Operating Temperature: 155°C; Package Quantity: 1; Tolerance: 1%; Packaging: Tape and Reel; Composition: Thick Film; Number of Terminations: 2; Termination: SMD/SMT; Military Standard: Not; Max Power Dissipation: 63mW; Features: Moisture Resistant; Length: 1mm; Height: 0.016inch; Width: 0.02inch; Depth: 0.5mm; REACH SVHC: Unknown; Lead Free: Lead Free; ComponentLink1URL: http://www.yageo.com/documents/recent/PYu-RC_Group_51_RoHS_L_9.pdf; ComponentLink1Description: http://www.yageo.com/documents/recent/PYu-RC_Group_51_RoHS_L_9.pdf; ComponentLink2URL: http://www.mouser.com/ds/2/447/PYu-RC0402_51_RoHS_L_6_r-8721.pdf; ComponentLink2Description: http://www.mouser.com/ds/2/447/PYu-RC0402_51_RoHS_L_6_r-8721.pdf; ComponentLink3URL: http://www.farnell.com/datasheets/1018594.pdf; ComponentLink3Description: http://www.farnell.com/datasheets/1018594.pdf; ComponentLink4URL: http://www.yageo.com/documents/recent/PYu-RC0402_51_RoHS_L_6_r.pdf; ComponentLink4Description: http://www.yageo.com/documents/recent/PYu-RC0402_51_RoHS_L_6_r.pdf; Supplier Part Number 1: 311-330KLRCT-ND
footprint R0402 (Chip Resistor, 2-Leads, Body 1.00x0.50mm, IPC Medium Density)
pins: 1, 2

## RC0402JR-070RL
designator R?, comment 0R
RES SMD 0 OHM 1/16W 0402; Manufacturer: Yageo; Manufacturer Part Number: RC0402JR-070RL; Resistance: 0mR; Power Rating: 62.5mW; Tolerance: 5%; Voltage Rating: 50V; Max Power Dissipation: 63mW; Temperature Coefficient: 200ppm/°C; Supplier 1: Digi-Key; Stock 1: 44333412; Pricing 1: 1=0.1, 10=0.017, 25=0.0124, 50=0.0096, 100=0.007, 250=0.0054, 500=0.0043, 1000=0.0032, 5000=0.0023 (USD); Case/Package: 0402; Contact Plating: Matte,Tin; Case Code (Metric): 1005; Case Code (Imperial): 0402; Min Operating Temperature: -55°C; Max Operating Temperature: 155°C; Packaging: Tape and Reel; Composition: Thick Film; Package Quantity: 1; Number of Terminations: 2; Termination: SMD/SMT; Military Standard: Not; Features: Moisture Resistant; Length: 1mm; Height: 0.016inch; Width: 0.02inch; Depth: 0.5mm; Radiation Hardening: No; REACH SVHC: Unknown; Lead Free: Lead Free; Supplier Part Number 1: 311-0.0JRCT-ND
footprint R0402 (Chip Resistor, 2-Leads, Body 1.00x0.50mm, IPC Medium Density)
pins: 1, 2

## RC0402JR-0710KL
designator R?, comment 10k
RES SMD 10K OHM 5% 1/16W 0402; Manufacturer: Yageo; Manufacturer Part Number: RC0402JR-0710KL; Resistance: 10kR; Power Rating: 62.5mW; Voltage Rating: 50V; Temperature Coefficient: 100ppm/°C; Max Power Dissipation: 63mW; Supplier 1: Digi-Key; Stock 1: 47303622; Pricing 1: 1=0.1, 10=0.018, 100=0.0073, 1000=0.0033, 2500=0.0029, 5000=0.0024 (USD); Case/Package: 0402; Case Code (Metric): 1005; Case Code (Imperial): 0402; Min Operating Temperature: -55°C; Max Operating Temperature: 155°C; Packaging: Tape and Reel; Tolerance: 5%; Package Quantity: 1; Composition: Thick Film; Number of Terminations: 2; Termination: SMD/SMT; Military Standard: Not; Features: Moisture Resistant; Length: 1mm; Height: 0.016inch; Width: 0.02inch; Depth: 0.5mm; REACH SVHC: Unknown; Lead Free: Lead Free; Supplier Part Number 1: 311-10KJRCT-ND
footprint R0402 (Chip Resistor, 2-Leads, Body 1.00x0.50mm, IPC Medium Density)
pins: 1, 2

## RC0805FR-07100RL
designator R?, comment 100R
RES SMD 100 OHM 1% 1/8W 0805; Manufacturer: Yageo; Manufacturer Part Number: RC0805FR-07100RL; Power Rating: 125mW; Voltage Rating: 150V; Temperature Coefficient: 100ppm/°C; Supplier 1: Digi-Key; Stock 1: 12008452; Pricing 1: 1=0.1, 10=0.046, 100=0.0186, 1000=0.0084, 2500=0.0073 (USD); Case/Package: 0805; Number of Pins: 2; Case Code (Imperial): 0805; Case Code (Metric): 2012; Min Operating Temperature: -55°C; Max Operating Temperature: 155°C; Resistance: 100R; Tolerance: 1%; Packaging: Tape and Reel; Package Quantity: 1; Termination: SMD/SMT; Composition: Thick Film; Number of Terminations: 2; Max Power Dissipation: 125mW; Features: Moisture Resistant; Voltage Rating (DC): 150V; Military Standard: Not; Length: 2mm; Height: 0.024inch; Width: 0.049inch; Depth: 1.25mm; Lead Pitch: 0.4mm; REACH SVHC: Unknown; Lead Free: Lead Free; ComponentLink1URL: http://www.farnell.com/datasheets/1697719.pdf; ComponentLink1Description: http://www.farnell.com/datasheets/1697719.pdf; ComponentLink2URL: http://www.yageo.ru/pdf/RC0805.pdf; ComponentLink2Description: http://www.yageo.ru/pdf/RC0805.pdf; ComponentLink3URL: http://www.farnell.com/datasheets/444164.pdf; ComponentLink3Description: http://www.farnell.com/datasheets/444164.pdf; ComponentLink4URL: http://www.yageo.com/documents/recent/PYu-RC_Group_51_RoHS_L_9.pdf; ComponentLink4Description: http://www.yageo.com/documents/recent/PYu-RC_Group_51_RoHS_L_9.pdf; ComponentLink5URL: http://www.farnell.com/datasheets/38627.pdf; ComponentLink5Description: http://www.farnell.com/datasheets/38627.pdf; ComponentLink6URL: http://www.farnell.com/datasheets/1686128.pdf; ComponentLink6Description: http://www.farnell.com/datasheets/1686128.pdf; Supplier Part Number 1: 311-100CRCT-ND
footprint R0805 (Chip Resistor, 2-Leads, Body 2.00x1.25mm, IPC Medium Density)
pins: 1, 2

## RMCF0402FT499K
designator R?, comment 499k
RES SMD 499K 0402 1% 1/16W 100ppm/C Molded SMD Paper T/R; Manufacturer: Stackpole Electronics; Manufacturer Part Number: RMCF0402FT499K; Description: Res Thick Film 0402 499K Ohm 1% 1/16W 100ppm/C Molded SMD Paper T/R; Resistance: 499kR; Max Power Dissipation: 63mW; Temperature Coefficient: 100ppm/°C; Supplier 1: Digi-Key; Stock 1: 80000; Pricing 1: 1=0.1, 10=0.016, 100=0.0064, 1000=0.0029, 2500=0.0025, 5000=0.0021 (USD); Mount: Surface Mount; Case/Package: 0402; Case Code (Metric): 1005; Case Code (Imperial): 0402; Contact Plating: Matte,Tin; Min Operating Temperature: -55°C; Max Operating Temperature: 155°C; Package Quantity: 10000; Packaging: Tape and Reel; Tolerance: 1%; Composition: Thick Film; Number of Terminations: 2; Features: Automotive AEC-Q200; Length: 0.039inch; Height: 0.016inch; Width: 0.02inch; Lead Free: Lead Free; Supplier Part Number 1: RMCF0402FT499KCT-ND
footprint R0402 (Chip Resistor, 2-Leads, Body 1.00x0.50mm, IPC Medium Density)
pins: 1, 2

## RNCF0805DTE10K0
designator R?, comment 10k
RES SMD 10K 0805 0.5% 0.1W(1/10W) ±25ppm/C Molded SMD Paper T/R; Manufacturer: Stackpole Electronics; Manufacturer Part Number: RNCF0805DTE10K0; Resistance: 10kR; Max Power Dissipation: 125mW; Temperature Coefficient: 25ppm/°C; Supplier 1: Digi-Key; Stock 1: 316249; Pricing 1: 1=0.17, 10=0.14, 100=0.0546, 1000=0.0229, 2500=0.021 (USD); Mount: Surface Mount; Case/Package: 0805; Case Code (Metric): 2012; Case Code (Imperial): 0805; Contact Plating: Matte,Tin; Min Operating Temperature: -55°C; Max Operating Temperature: 155°C; Packaging: Tape and Reel; Tolerance: 0.5%; Composition: Thin Film; Number of Terminations: 2; Military Standard: Not; Features: Moisture Resistant; Length: 2mm; Height: 0.026inch; Width: 0.049inch; Depth: 1.25mm; Radiation Hardening: No; ComponentLink1URL: https://www.verical.com/server-webapp/html/getDatasheet?partID=508893; ComponentLink1Description: https://www.verical.com/server-webapp/html/getDatasheet?partID=508893; Supplier Part Number 1: RNCF0805DTE10K0CT-ND
footprint R0805 (Chip Resistor, 2-Leads, Body 2.00x1.25mm, IPC Medium Density)
pins: 1, 2

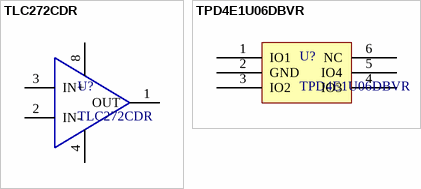
[diagram p1: symbols TLC272CDR to TPD4E1U06DBVR]

## TLC272CDR
designator U?
IC OPAMP GP 2.2MHZ 8SOIC; Manufacturer: Texas Instruments; Unity Gain Bandwidth Product: 1.7MHz; Max Supply Voltage: 16V; Min Supply Voltage: 3V; Voltage Gain: 87.23dB; Nominal Supply Current: 4mA; Common Mode Rejection Ratio: 65dB; Number of Channels: 2; Slew Rate: 3.6V/µs; Max I/O Voltage: 10mV; Input Bias Current: 60pA; Operating Supply Current: 1.9mA; Output Current per Channel: 30mA; Power Dissipation: 725mW; Supplier 1: Digi-Key; Manufacturer Part Number: TLC272CDR; Stock 1: 19903; Pricing 1: 1=1.23, 10=1.097, 100=0.8552, 500=0.7065, 1000=0.5578 (USD); Case/Package: D; Number of Pins: 8; Min Operating Temperature: -40°C; Max Operating Temperature: 85°C; Packaging: Tape and Reel; Bandwidth: 1.7MHz; Package Quantity: 2500; Nominal Gain Bandwidth Product: 1.7MHz; Number of Circuits: 2; Gain Bandwidth Product: 1.7MHz; Input Offset Voltage (Vos): 10mV; Number of Elements: 2; Number of Amplifiers: 2; Length: 4.9mm; Height: 1.58mm; Width: 3.91mm; Radiation Hardening: No; REACH SVHC: No SVHC; Lead Free: Lead Free; ComponentLink1URL: http://www.ti.com/lit/ds/symlink/tlc272a.pdf; ComponentLink1Description: http://www.ti.com/lit/ds/symlink/tlc272a.pdf; ComponentLink2URL: http://www.farnell.com/datasheets/1831142.pdf; ComponentLink2Description: http://www.farnell.com/datasheets/1831142.pdf; ComponentLink3URL: http://focus.ti.com/lit/ds/symlink/tlc277.pdf; ComponentLink3Description: http://focus.ti.com/lit/ds/symlink/tlc277.pdf; Supplier Part Number 1: 296-1310-1-ND
footprint 8-SOIC (SOIC, 8-Leads, Body 4.90x3.90mm, Pitch 1.27mm, IPC Medium Density)
pins: 1 OUT, 2 IN-, 3 IN+, 4 V-, 8 V+